# Altium footprint library COMSYS301.PcbLib: 13 footprints
Each footprint in its own frame and in the unit in brackets; x right, y up, seen from the top. Pads: shape width x height; smd on the part's side, far side on the other; paste and mask are expansions set on the pad; w line width, h text height; cw(c..) or ccw(c..) is an arc to the next point about the centre after c.
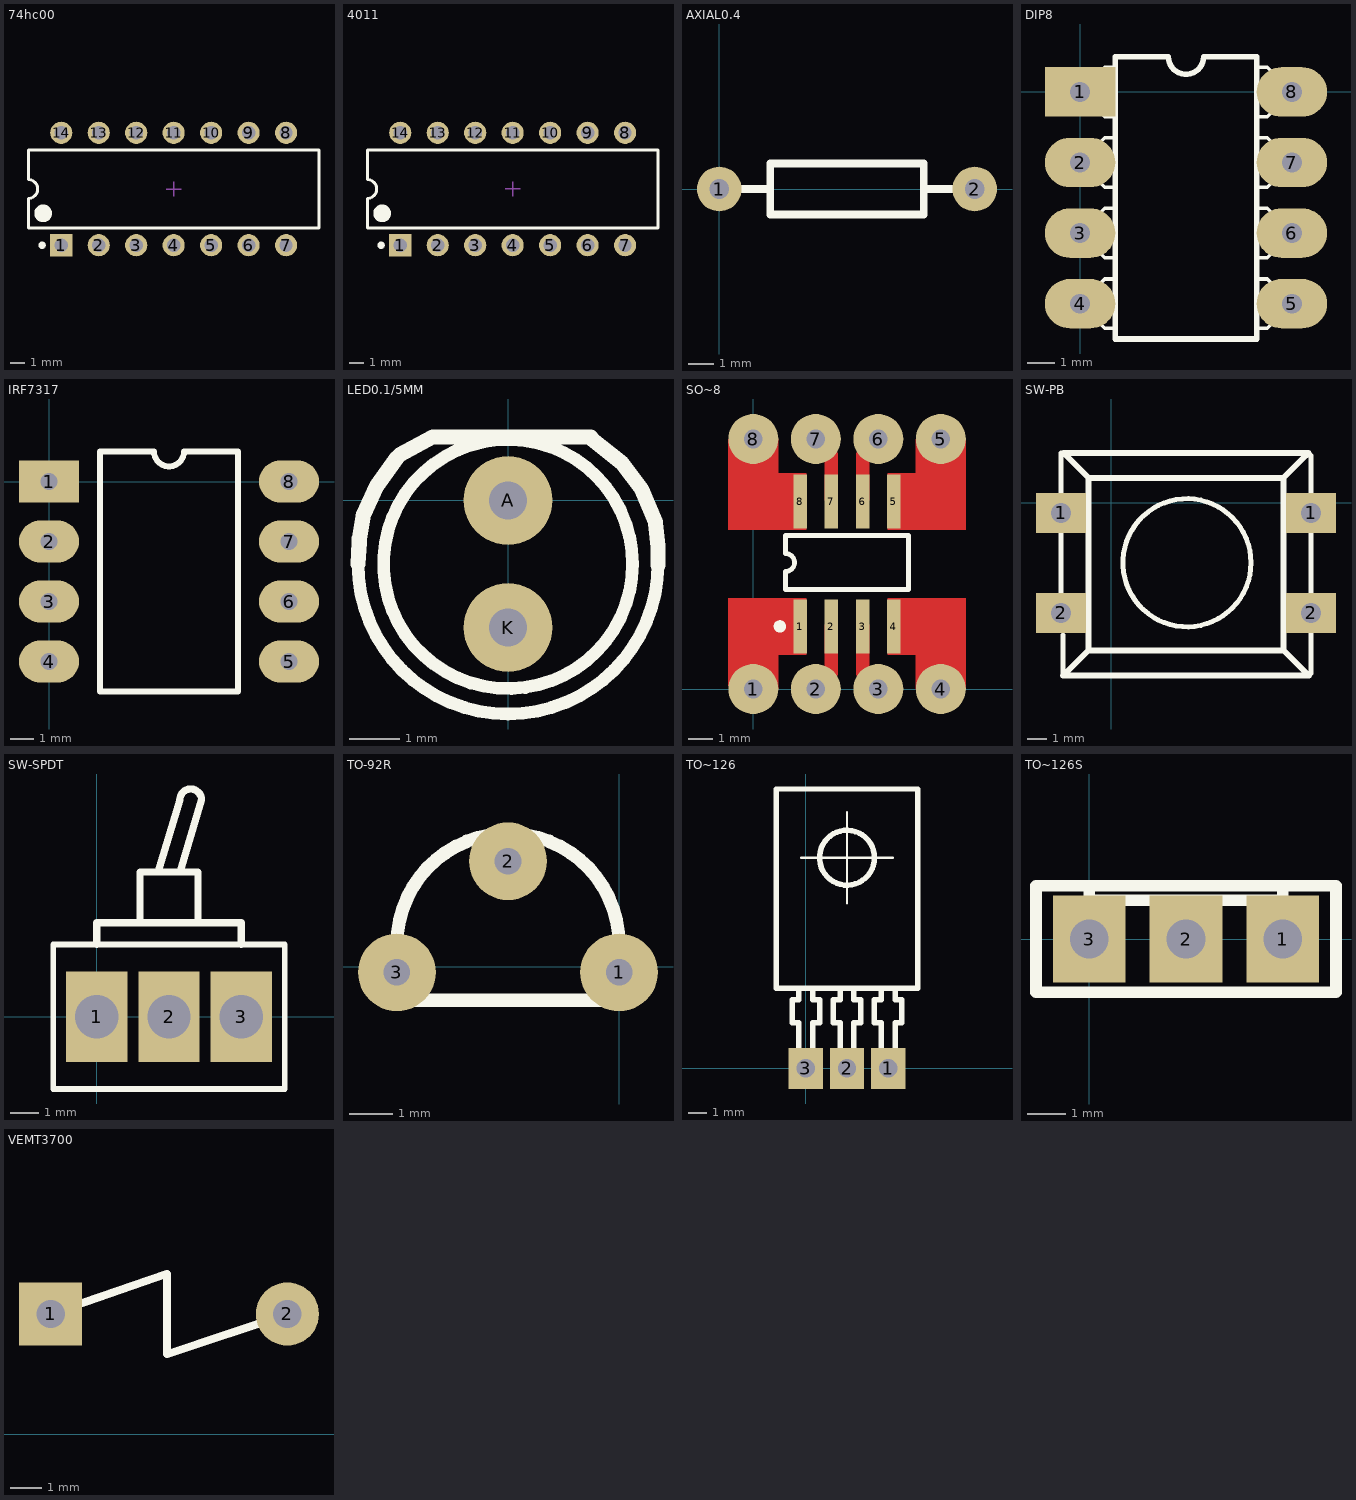
[diagram p0: the footprints below, top view; thin cyan lines are the x and y axes]

## 74hc00 [mm]
pads (14):
  rect 1.5x1.5 hole 0.9: 1(78.867,-26.67)
  round 1.5 hole 0.9: 2(81.407,-26.67) 3(83.947,-26.67) 4(86.487,-26.67) 5(89.027,-26.67) 6(91.567,-26.67) 7(94.107,-26.67) 8(94.107,-19.05) 9(91.567,-19.05) 10(89.027,-19.05) 11(86.487,-19.05) 12(83.947,-19.05) 13(81.407,-19.05) 14(78.867,-19.05)
Top Overlay:
  circle w0.25: c77.567,-26.67 r0.125
  circle w0.6: c77.637,-24.51 r0.3
  lines w0.2: 76.637,-25.51 96.337,-25.51 96.337,-20.21 76.637,-20.21 76.637,-22.225 cw(c76.637,-22.86) 76.637,-23.495 76.637,-25.51
Mechanical 15:
  lines w0.1: 85.987,-22.86 86.987,-22.86 ; 86.487,-23.36 86.487,-22.36

## 4011 [mm]
pads (14):
  rect 1.5x1.5 hole 0.9: 1(60.452,-42.037)
  round 1.5 hole 0.9: 2(62.992,-42.037) 3(65.532,-42.037) 4(68.072,-42.037) 5(70.612,-42.037) 6(73.152,-42.037) 7(75.692,-42.037) 8(75.692,-34.417) 9(73.152,-34.417) 10(70.612,-34.417) 11(68.072,-34.417) 12(65.532,-34.417) 13(62.992,-34.417) 14(60.452,-34.417)
Top Overlay:
  circle w0.25: c59.152,-42.037 r0.125
  circle w0.6: c59.222,-39.877 r0.3
  lines w0.2: 58.222,-40.877 77.922,-40.877 77.922,-35.577 58.222,-35.577 58.222,-37.592 cw(c58.222,-38.227) 58.222,-38.862 58.222,-40.877
Mechanical 15:
  lines w0.1: 67.572,-38.227 68.572,-38.227 ; 68.072,-38.727 68.072,-37.727

## AXIAL0.4 [mil]
pads (2):
  round 70 hole 31: 1(0,0) 2(400,0)
Top Overlay:
  lines w12: 0,0 80,0 ; 320,0 400,0 ; 80,-40 320,-40 320,40 80,40 80,-40

## DIP8 [mil]
pads (8):
  rect 100x70 hole 28: 1(0,0)
  oval 100x70 hole 28: 2(0,-100) 3(0,-200) 4(0,-300) 5(300,-300) 6(300,-200) 7(300,-100) 8(300,0)
Top Overlay:
  lines w5: 50,-335 35,-335 15,-315 0,-315 0,-285 15,-285 35,-265 50,-265 ; 50,-235 35,-235 15,-215 0,-215 0,-185 15,-185 35,-165 50,-165 ; 50,-135 35,-135 15,-115 0,-115 0,-85 15,-85 35,-65 50,-65 ; 50,-35 35,-35 15,-15 0,-15 0,15 15,15 35,35 50,35 ; 250,-335 265,-335 285,-315 300,-315 300,-285 285,-285 265,-265 250,-265 ; 250,-235 265,-235 285,-215 300,-215 300,-185 285,-185 265,-165 250,-165 ; 250,-135 265,-135 285,-115 300,-115 300,-85 285,-85 265,-65 250,-65 ; 250,-35 265,-35 285,-15 300,-15 300,15 285,15 265,35 250,35
  lines w8: 50,-350 250,-350 250,50 175,50 cw(c150,50) 125,50 50,50 50,-350

## IRF7317 [mil]
pads (8):
  rect 100x70 hole 28: 1(0,0)
  oval 100x70 hole 28: 2(0,-100) 3(0,-200) 4(0,-300) 5(400,-300) 6(400,-200) 7(400,-100) 8(400,0)
Top Overlay:
  lines w10: 85,-350 315,-350 315,50 225,50 cw(c200,50) 175,50 85,50 85,-350

## LED0.1/5MM [mil]
pads (2):
  round 70 hole 30: A(0,0) K(0,-100)
Top Overlay:
  circle w10: c0,-50 r98
  lines w10: -118,-50 ccw(c0,-50) 118,-50
  lines w12: -118,-50 -117,-33 ; -117,-30 -114,-13 ; -114,-12 -103,12 -87,34 ; -85,36 -59,50 ; -58,50 65,50 ; 64,50 90,29 105,9 116,-17 ; 116,-18 118,-36 118,-51

## SO~8 [mil]
pads (16):
  round 80 hole 30: 1(0,0) 2(100,0) 3(200,0) 4(300,0) 5(300,400) 6(200,400) 7(100,400) 8(0,400)
  rect 21.65x86.61 smd: 1(75,100) 2(125,100) 3(175,100) 4(225,100) 5(225,300) 6(175,300) 7(125,300) 8(75,300)
Top Layer:
  region: 215,145 215,55 260,55 260,0 340,0 340,145
  region: 85,145 85,55 40,55 40,0 -40,5 -40,145
  region: 215,255 215,345 260,345 260,400 340,400 340,255
  region: 85,255 85,345 40,345 40,400 -40,400 -40,255
  lines w21.65: 100,0 125,25 125,100 ; 100,400 125,375 125,304.72 ; 175,100 175,25 200,0 ; 175,304.72 175,375 200,400
Top Overlay:
  circle w9.84: c42.52,100.2 r4.92
  lines w7.87: 51.58,159.06 51.58,187.93 ccw(c51.58,202.36) 51.58,216.8 51.58,245.67 248.43,245.67 248.43,159.06 51.58,159.06

## SW-PB [mil]
pads (4):
  rect 100x80 hole 40: 1(-100,-20) 1(400,-20) 2(-100,-220) 2(400,-220)
Top Overlay:
  circle w10: c151.94,-120 r128.06
  lines w10: -100,-180 -100,-60 ; -100,20 -100,100 ; -96,-345 -96,-264 ; 400,-341 400,-260 ; 400,-180 400,-60 ; 400,20 400,95
  lines w12: -96,-345 396,-345 ; -95,-345 -45,-295 ; 390,95 345,50 ; 395,-345 345,-295 ; 395,100 -95,100 -45,50 ; -45,-295 345,-295 ; -45,-295 -45,50 ; -45,50 345,50 ; 345,-295 345,50

## SW-SPDT [mil]
pads (3):
  rect 85x125 hole 60: 1(0,0) 2(100,0) 3(200,0)
Top Overlay:
  lines w8: -60,-100 260,-100 260,100 -60,100 -60,-100
  lines w10: 0,100 0,130 200,130 200,100 ; 60,130 60,200 140,200 140,130 ; 85,200 115,300 cw(c130,300) 145,300 115,200

## TO-92R [mil]
pads (3):
  round 70 hole 24: 1(0,-5) 2(-100,95) 3(-200,-5)
Top Overlay:
  lines w12: -200,-30 0,-30 0,20 ccw(c-100,20) -200,20 -200,-5 -200,-30

## TO~126 [mil]
pads (3):
  rect 75x90 hole 40: 1(180,0) 2(90,0) 3(0,0)
Top Overlay:
  circle w12: c90,460 r60
  lines w5: -10,460 190,460 ; 90,360 90,560
  lines w12: -15,175 -15,150 -30,150 -30,100 -15,100 -15,0 15,0 15,100 30,100 30,150 15,150 15,175 ; 75,175 75,150 60,150 60,100 75,100 75,0 105,0 105,100 120,100 120,150 105,150 105,175 ; 165,175 165,150 150,150 150,100 165,100 165,0 195,0 195,100 210,100 210,150 195,150 195,175 ; -65,175 -65,610 245,610 245,175 90,175 -65,175

## TO~126S [mil]
pads (3):
  rect 75x90 hole 40: 1(200,0) 2(100,0) 3(0,0)
Top Overlay:
  lines w12: 0,55 0,40 200,40 200,50 ; -55,-55 -55,55 255,55 255,-55 -55,-55

## VEMT3700 [mm]
pads (2):
  rect 2x2 hole 0.9: 1(2.54,3.81)
  round 2 hole 0.9: 2(10.033,3.81)
Top Overlay:
  lines w0.254: 2.54,3.81 6.223,5.08 6.223,2.54 10.033,3.81